# EAGLE library part LT3750EMS (library di_ic)
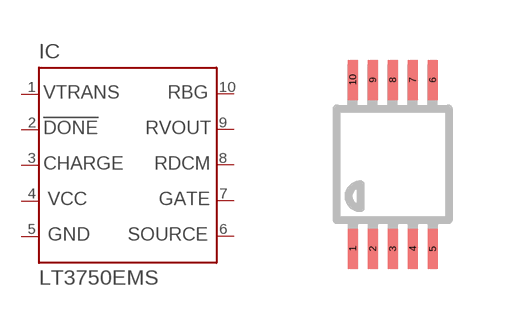
[diagram p17: symbol with the pads of MSOP10; footprint MSOP10]

Designator prefix IC

## LT3750EMS  [MSOP10]
1  VTRANS
2  !DONE  out
3  CHARGE  in
4  VCC  pwr
5  GND  pwr
6  SOURCE
7  GATE
8  RDCM
9  RVOUT
10  RBG

## Footprint MSOP10 (pad centres in mm)
10-Lead Mini Small Outline Package [MSOP] (RM-10) Source: http://www.analog.com/UploadedFiles/Data_Sheets/35641221898805SSM2167_b.pdf COMPLIANT TO JEDEC STANDARDS MO-187BA
smd 0.25 x 1: 1 -1,-2.113; 2 -0.5,-2.113; 3 0,-2.113; 4 0.5,-2.113; 5 1,-2.113; 6 1,2.113; 7 0.5,2.113; 8 0,2.113; 9 -0.5,2.113; 10 -1,2.113